# EAGLE library part S10B-PH-* (library jst-ph1)
Wire-to-Board 2.0mm pitch side mount connector Source: http://www.jst-mfg.com/product/pdf/jpn/PH.pdf http://www.jst-mfg.com/product/detail.php?series=199
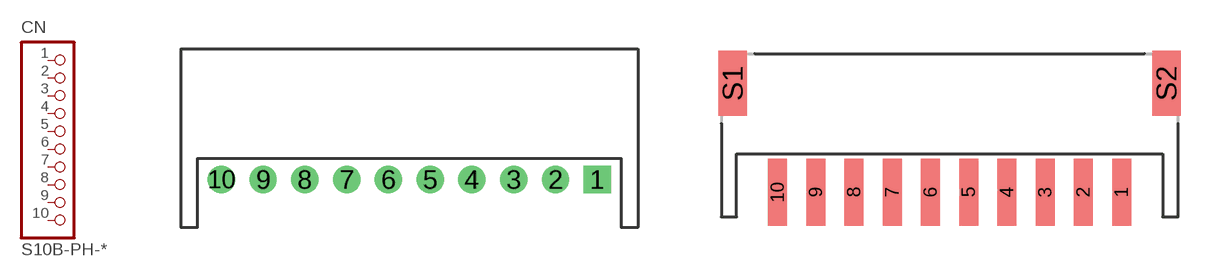
[diagram p15: symbol with the pads of S10B-PH-K-S; footprints S10B-PH-K-S, S10B-PH-SM4-TB]

Designator prefix CN

## S10B-PH-K-S  [S10B-PH-K-S]
1  1  pas
2  2  pas
3  3  pas
4  4  pas
5  5  pas
6  6  pas
7  7  pas
8  8  pas
9  9  pas
10  10  pas

## S10B-PH-SM4-TB  [S10B-PH-SM4-TB]
Pads as for S10B-PH-K-S

## Footprint S10B-PH-K-S (pad centres in mm)
drill 0.8 square: 1 9,0
drill 0.8: 2 7,0; 3 5,0; 4 3,0; 5 1,0; 6 -1,0; 7 -3,0; 8 -5,0; 9 -7,0; 10 -9,0

## Footprint S10B-PH-SM4-TB (pad centres in mm)
smd 1 x 3.5: 1 9,-1; 2 7,-1; 3 5,-1; 4 3,-1; 5 1,-1; 6 -1,-1; 7 -3,-1; 8 -5,-1; 9 -7,-1; 10 -9,-1
smd 1.5 x 3.4: S1 -11.35,4.7; S2 11.35,4.7